# Altium footprint library DAC0800.PcbLib: 3 footprints
Each footprint in its own frame and in the unit in brackets; x right, y up, seen from the top. Pads: shape width x height; smd on the part's side, far side on the other; paste and mask are expansions set on the pad; w line width, h text height; cw(c..) or ccw(c..) is an arc to the next point about the centre after c.
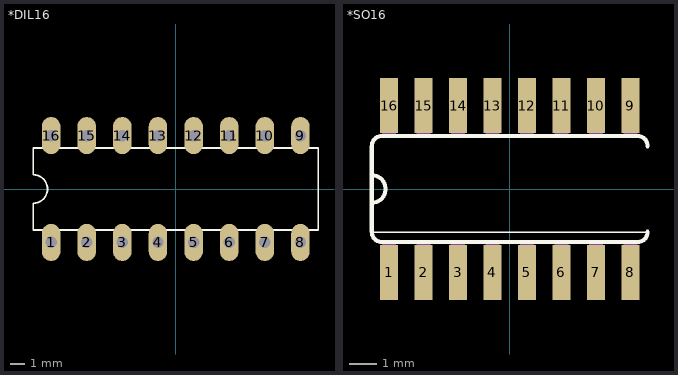
[diagram p0: the footprints below, top view; thin cyan lines are the x and y axes]

## *DIL16 [mil]
pads (16):
  oval 52x104 hole 32: 1(-350,-150) 2(-250,-150) 3(-150,-150) 4(-50,-150) 5(50,-150) 6(150,-150) 7(250,-150) 8(350,-150) 9(350,150) 10(250,150) 11(150,150) 12(50,150) 13(-50,150) 14(-150,150) 15(-250,150) 16(-350,150)
Top Overlay:
  lines w5: -400,-115 -400,-40 ccw(c-400,0) -400,40 -400,115 400,115 400,-115 -400,-115

## *SO16 [mil]
pads (16):
  rect 26x80 smd: 1(-175,-121) 2(-125,-121) 3(-75,-121) 4(-25,-121) 5(25,-121) 6(75,-121) 7(125,-121) 8(175,-121) 9(175,121) 10(125,121) 11(75,121) 12(25,121) 13(-25,121) 14(-75,121) 15(-125,121) 16(-175,121)
Top Overlay:
  lines w2: -200,-63 200,-63
  lines w6: 200,-62 cw(c185,-62) 185,-77 -185,-77 cw(c-185,-62) -200,-62 -200,-20 ; 200,62 ccw(c185,62) 185,77 -185,77 ccw(c-185,62) -200,62 -200,20 ; -200,-20 ccw(c-200,0) -200,20 ; -200,-20 -200,20
Mechanical 4:
  region: 165.28,122 185,122 185,77.13 165.28,77.13
  region: 115.15,122 135,122 135,77.1 115.15,77.1
  region: 65.07,122 85,122 85,77.09 65.07,77.09
  region: 15.02,122 35,122 35,77.1 15.02,77.1
  region: 165.01,-77 185,-77 185,-122.01 165.01,-122.01
  region: 115.23,-77 135,-77 135,-122.24 115.23,-122.24
  region: 65.06,-77 85,-77 85,-122.11 65.06,-122.11
  region: 15.02,-77 35,-77 35,-122.15 15.02,-122.15
  region: -185.01,122 -165,122 -165,77 -185.01,77
  region: -135.14,122 -115,122 -115,77.08 -135.14,77.08
  region: -85.1,122 -65,122 -65,77.09 -85.1,77.09
  region: -35.04,-77 -15,-77 -15,-122.12 -35.04,-122.12
  region: -85.16,-76 -65,-76 -65,-121.23 -85.16,-121.23
  region: -135.04,-77 -115,-77 -115,-122.04 -135.04,-122.04
  region: -185.08,-77 -165,-77 -165,-122.05 -185.08,-122.05
  region: -35.04,122 -15,122 -15,77.08 -35.04,77.08
  region: 165.28,122 185,122 185,77.13 165.28,77.13
  region: 115.15,122 135,122 135,77.1 115.15,77.1
  region: 65.07,122 85,122 85,77.09 65.07,77.09
  region: 15.02,122 35,122 35,77.1 15.02,77.1
  region: 165.01,-77 185,-77 185,-122.01 165.01,-122.01
  region: 115.23,-77 135,-77 135,-122.24 115.23,-122.24
  region: 65.06,-77 85,-77 85,-122.11 65.06,-122.11
  region: 15.02,-77 35,-77 35,-122.15 15.02,-122.15
  region: -185.01,122 -165,122 -165,77 -185.01,77
  region: -135.14,122 -115,122 -115,77.08 -135.14,77.08
  region: -85.1,122 -65,122 -65,77.09 -85.1,77.09
  region: -35.04,-77 -15,-77 -15,-122.12 -35.04,-122.12
  region: -85.16,-76 -65,-76 -65,-121.23 -85.16,-121.23
  region: -135.04,-77 -115,-77 -115,-122.04 -135.04,-122.04
  region: -185.08,-77 -165,-77 -165,-122.05 -185.08,-122.05
  region: -35.04,122 -15,122 -15,77.08 -35.04,77.08

## PCBComponent_1 [mil]